# Altium schematic symbol library FishWand_Schlib.SchLib: 69 symbols
Pins are listed as number, name and electrical type; pins without a type are passive.

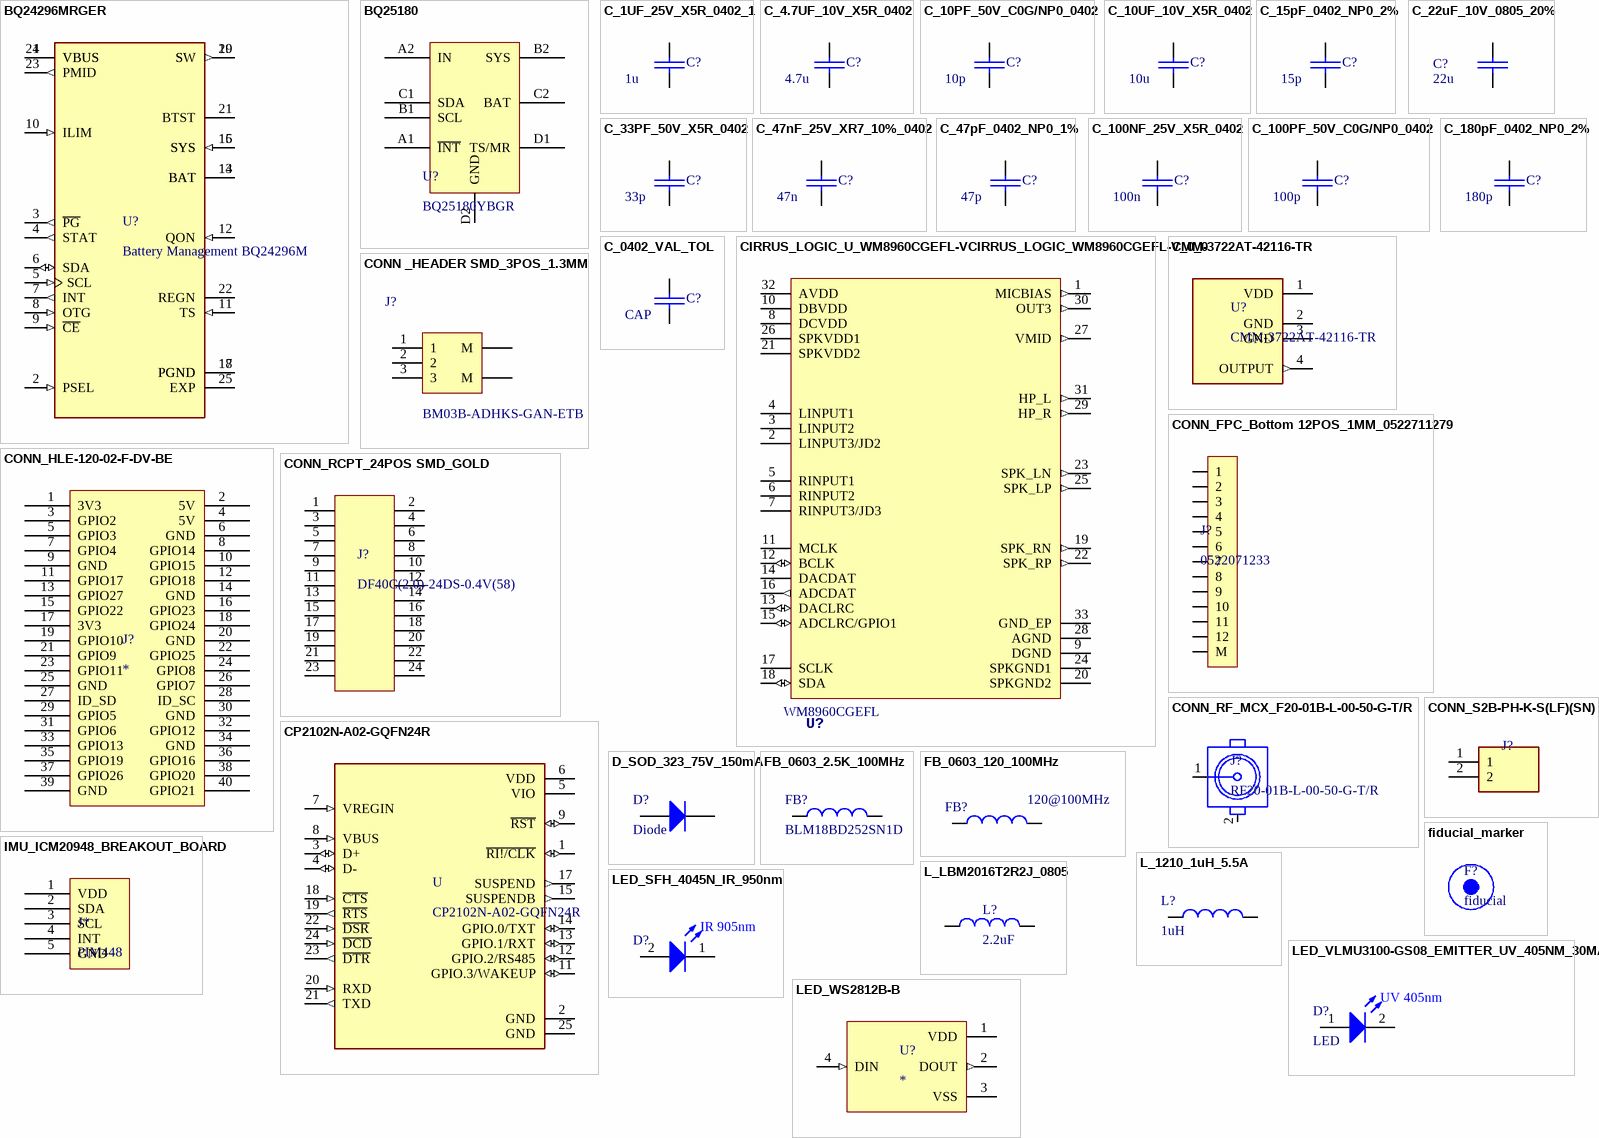
[diagram p0: symbols BQ24296MRGER to LED_WS2812B-B]

## BQ24296MRGER
designator U?, comment Battery Management BQ24296M
Charger IC Lithium Ion/Polymer 24-VQFN (4x4); Manufacturer: TI; Manufacturer PN: BQ24296MRGER; Package / Case: VQFN-24; Price: 4.05; Supplier PN: 595-BQ24296MRGER; Availability: Unavailable; Supplier: Mouser
footprint QFN50P400X400X100-25N
footprint QFN50P400X400X100-25N
pins: 1 VBUS (power), 2 PSEL (in), 3 ~{PG} (out), 4 STAT (out), 5 SCL (in), 6 SDA (io), 7 INT (out), 8 OTG (in), 9 ~{CE} (in), 10 ILIM (in), 11 TS (in), 12 QON (in), 13 BAT (power), 14 BAT (power), 15 SYS (in), 16 SYS (in), 17 PGND (power), 18 PGND (power), 19 SW (out), 20 SW (out), 21 BTST (power), 22 REGN (power), 23 PMID (out), 24 VBUS (power), 25 EXP (power)

## BQ25180
designator U?, comment BQ25180YBGR
Charger IC Lithium Ion/Polymer, Lithium Iron Phosphate 8-DSBGA (1.6x1.1); Manufacturer: Texas Instruments; Supplier: Digi-Key; Supplier PN: 296-BQ25180YBGRTR-ND; Manufacturer PN: BQ25180YBGR; Package / Case: 8-XFBGA, DSBGA; Supplier 1: Digi-Key; Supplier Part Number 1: 296-BQ25180YBGRCT-ND
pins: A1 ~{INT}, A2 IN, B1 SCL, B2 SYS, C1 SDA, C2 BAT, D1 TS/MR, D2 GND

## C_1UF_25V_X5R_0402_1
designator C?, comment 1u
CAP CER 1UF 25V X5R 0402; Manufacturer: Murata Electronics North America; Manufacturer PN: GRT155R61E105KE01D; Supplier PN: 490-12263-2-ND
footprint CAPC100X50X65
pins: 1, 2

## C_4.7UF_10V_X5R_0402
designator C?, comment 4.7u
CAP CER 4.7UF 10V X5R 0402; Manufacturer: Murata Electronics North America; Manufacturer PN: GRM155R61A475MEAAD; Supplier PN: 490-14306-1-ND
footprint CAPC100X50X65
pins: 1, 2

## C_10PF_50V_C0G/NP0_0402
designator C?, comment 10p
CAP CER 10PF 50V C0G/NP0 0402; Manufacturer: Murata Electronics; Manufacturer PN: GRT1555C1H100JA02J; Supplier: Digi-Key; Supplier PN: 490-GRT1555C1H100JA02JTR-ND
footprint CAPC100X50X65
pins: 1, 2

## C_10UF_10V_X5R_0402
designator C?, comment 10u
CAP CER 10UF 10V X5R 0402; Manufacturer: Samsung Electro-Mechanics; Manufacturer PN: CL05A106MP5NUNC; Supplier PN: 1276-1450-1-ND
footprint CAPC100X50X65
pins: 1, 2

## C_15pF_0402_NP0_2%
designator C?, comment 15p
15 pF ±2% 50V Ceramic Capacitor C0G, NP0 0402 (1005 Metric); Manufacturer: YAGEO; Manufacturer PN: CC0402GRNPO9BN150; Value: 15pF; Supplier: Digi-Key; Supplier PN: 311-1649-1-ND; Tolerance: 2%
footprint CAPC100X50X65
pins: 1, 2

## C_22uF_10V_0805_20%
designator C?, comment 22u
CAP CER 22UF 10V X5R 0805; Manufacturer PN: GRM21BR61A226ME51L; Manufacturer: Murata Electronics North America; RoHS: YES; Type: Cer; Supplier PN: 490-10511-1-ND; Value: 22uF
footprint CAPC200X125X140L45N (Capacitor, Chip; 2.00 mm L X 1.25 mm W X 1.40 mm H body)
pins: 1, 2

## C_33PF_50V_X5R_0402
designator C?, comment 33p
CAP CER 33PF 50V C0G/NP0 0402; Manufacturer: Murata Electronics; Manufacturer PN: GRM1555C1H330JA01D; Supplier: Digi-Key; Supplier PN: 490-5936-2-ND
footprint CAPC100X50X65
pins: 1, 2

## C_47nF_25V_XR7_10%_0402
designator C?, comment 47n
CAP CER 0.047UF 25V X7R 0402; Manufacturer: Murata Electronics; Manufacturer PN: GRM155R71E473KA88D; Value: 47nF; Supplier: Digi-Key; Supplier PN: 490-3254-2-ND
footprint CAPC100X50X65
pins: 1, 2

## C_47pF_0402_NP0_1%
designator C?, comment 47p
47 pF ±1% 50V Ceramic Capacitor C0G, NP0 0402 (1005 Metric); Manufacturer: YAGEO; Manufacturer PN: CC0402FRNPO9BN470; Value: 47pF; Supplier: Digi-Key; Supplier PN: 311-1646-1-ND; Tolerance: 1%
footprint CAPC100X50X65
pins: 1, 2

## C_100NF_25V_X5R_0402
designator C?, comment 100n
CAP CER 100nF 25V X5R 0402; Manufacturer: Murata Electronics; Manufacturer PN: GRM155R61E104KA87D; Supplier: Digi-Key; Supplier PN: 490-5920-2-ND
footprint CAPC100X50X65
pins: 1, 2

## C_100PF_50V_C0G/NP0_0402
designator C?, comment 100p
CAP CER 100PF 50V C0G/NP0 0402; Manufacturer: Murata Electronics; Manufacturer PN: GRT1555C1H101JA02J; Supplier: Digi-Key; Supplier PN: 490-GRT1555C1H101JA02JTR-ND
footprint CAPC100X50X65
pins: 1, 2

## C_180pF_0402_NP0_2%
designator C?, comment 180p
180 pF ±2% 50V Ceramic Capacitor C0G, NP0 0402 (1005 Metric); Manufacturer: YAGEO; Manufacturer PN: CC0402GRNPO9BN181; Value: 180pF; Supplier: Digi-Key; Supplier PN: 311-3333-1-ND; Tolerance: 2%
footprint CAPC100X50X65
pins: 1, 2

## C_0402_VAL_TOL
designator C?, comment CAP
footprint CAPC100X50X65
pins: 1, 2

## CIRRUS_LOGIC_U_WM8960CGEFL-VCIRRUS_LOGIC_WM8960CGEFL-V_0_0
designator U?, comment WM8960CGEFL
Manufacturer: Cirrus Logic; Manufacturer PN: WM8960CGEFL/V; Package / Case: QFN32
footprint CIRRUS_LOGIC_WM8960CGEFL-V_0
pins: 1 MICBIAS (out), 2 LINPUT3/JD2, 3 LINPUT2, 4 LINPUT1, 5 RINPUT1, 6 RINPUT2, 7 RINPUT3/JD3, 8 DCVDD (power), 9 DGND (power), 10 DBVDD (power), 11 MCLK, 12 BCLK (io), 13 DACLRC (io), 14 DACDAT, 15 ADCLRC/GPIO1 (io), 16 ADCDAT (out), 17 SCLK, 18 SDA (io), 19 SPK_RN (out), 20 SPKGND2 (power), 21 SPKVDD2 (power), 22 SPK_RP (out), 23 SPK_LN (out), 24 SPKGND1 (power), 25 SPK_LP (out), 26 SPKVDD1 (power), 27 VMID (out), 28 AGND (power), 29 HP_R (out), 30 OUT3 (out), 31 HP_L (out), 32 AVDD (power), 33 GND_EP (power)

## CMM-3722AT-42116-TR
designator U?
MICROPHONE MEMS ANALOG OMNI; Manufacturer: CUI Devices; Package / Case: SMD/SMT; Price: 1.33; Value: *; Manufacturer PN: CMM-3722AT-42116-TR; Availability: Unavailable; Supplier: Mouser; Supplier PN: 490-CMM3722AT42116TR
footprint XDCR_CMM-3722AT-42116-TR
pins: 1 VDD (power), 2 GND (power), 3 GND (power), 4 OUTPUT (out)

## CONN _HEADER SMD_3POS_1.3MM
designator J?, comment BM03B-ADHKS-GAN-ETB
CONN HEADER SMD R/A 3POS 1.3MM; Manufacturer: JST Sales America Inc.; Manufacturer PN: BM03B-ADHKS-GAN-ETB; Supplier: Digi-Key; Supplier PN: 455-2900-1-ND; ComponentLink1Description: Datasheet; ComponentLink1URL: http://www.jst-mfg.com/product/pdf/eng/eADH.pdf
footprint J_JST_BM03B-ADHKS-GAN-ETB (CONN HEADER SMD R/A 3POS 1.3MM)
pins: 0 M, 0 M, 1, 2, 3

## CONN_FPC_Bottom 12POS_1MM_0522711279
designator J?, comment 0522071233
CONN FPC BOTTOM 12POS 1.00MM R/A; Manufacturer: Molex; Manufacturer PN: 0522711279; Supplier: Digi-Key; Supplier PN: WM7960CT-ND; Package / Case: *
footprint CONN_0522711279 (Molex 0522711279)
pins: 1, 2, 3, 4, 5, 6, 7, 8, 9, 10, 11, 12, M

## CONN_HLE-120-02-F-DV-BE
designator J?
CONN_HLE-120-02-F-DV-BE; Manufacturer: Samtec; Manufacturer PN: HLE-120-02-F-DV-BE; Availability: Unavailable; Price: None; Value: *
footprint SAMTEC_HLE-120-02-F-DV-BE
pins: 1 3V3 (power), 2 5V (power), 3 GPIO2, 4 5V (power), 5 GPIO3, 6 GND (power), 7 GPIO4, 8 GPIO14, 9 GND (power), 10 GPIO15, 11 GPIO17, 12 GPIO18, 13 GPIO27, 14 GND (power), 15 GPIO22, 16 GPIO23, 17 3V3 (power), 18 GPIO24, 19 GPIO10, 20 GND (power), 21 GPIO9, 22 GPIO25, 23 GPIO11, 24 GPIO8, 25 GND (power), 26 GPIO7, 27 ID_SD, 28 ID_SC, 29 GPIO5, 30 GND (power), 31 GPIO6, 32 GPIO12, 33 GPIO13, 34 GND (power), 35 GPIO19, 36 GPIO16, 37 GPIO26, 38 GPIO20, 39 GND (power), 40 GPIO21

## CONN_RCPT_24POS SMD_GOLD
designator J?, comment DF40C(2.0)-24DS-0.4V(58)
CONN RCPT 24POS SMD GOLD; Manufacturer: Hirose Electric Co Ltd; Source PN: H124598TR-ND; Manufacturer PN: DF40C(2.0)-24DS-0.4V(58); Source: Digi-Key
pins: 1, 2, 3, 4, 5, 6, 7, 8, 9, 10, 11, 12, 13, 14, 15, 16, 17, 18, 19, 20, 21, 22, 23, 24

## CONN_RF_MCX_F20-01B-L-00-50-G-T/R
designator J?, comment RF20-01B-L-00-50-G-T/R
CONN RF MCX SMT VERT 50OHM; Manufacturer: Adam Tech; Manufacturer PN: RF20-01B-L-00-50-G-T/R; Supplier: Digi-Key; Supplier PN: 2057-RF20-01B-L-00-50-G-T/RCT-ND; Package / Case: MCX SMT VERT 50OHM
footprint MCX_SMT_RF20-01B-L-00-50-G-T/R
pins: 1, 2

## CONN_S2B-PH-K-S(LF)(SN)
designator J?  (value not drawn)
CONN PH Series 2 Position 2.0 mm Through Hole Side Entry Shrouded Header; Manufacturer PN: S2B-PH-K-S(LF)(SN); Manufacturer: JST; Package / Case: None; Availability: Unavailable; Value: *; Price: None
footprint JST_S2B-PH-K-S(LF)(SN)
pins: 1, 2

## CP2102N-A02-GQFN24R
designator U
USB Bridge, USB to UART USB 2.0 UART Interface 24-QFN _4x4_; MF: Silicon Labs; Package: WFQFN-24 Silicon Labs; Price: None; Availability: Unavailable; MP: CP2102N-A02-GQFN24R; SnapEDA_Link: https://www.snapeda.com/parts/CP2102N-A02-GQFN24R/Silicon%20Labs/view-part/3601234/?ref=snap; Value: *
footprint QFN50P400X400X80-25N - duplicate
pins: 1 ~{RI!/CLK} (io), 2 GND (power), 3 D+ (io), 4 D- (io), 5 VIO (power), 6 VDD (power), 7 VREGIN (in), 8 VBUS (in), 9 ~{RST} (io), 11 GPIO.3/WAKEUP (io), 12 GPIO.2/RS485 (io), 13 GPIO.1/RXT (io), 14 GPIO.0/TXT (io), 15 SUSPENDB (out), 17 SUSPEND (out), 18 ~{CTS} (in), 19 ~{RTS} (out), 20 RXD (in), 21 TXD (out), 22 ~{DSR} (in), 23 ~{DTR} (out), 24 ~{DCD} (in), 25 GND (power)

## D_SOD_323_75V_150mA
designator D?, comment Diode
DIODE GEN PURP 75V 150MA SOD323F; Manufacturer: onsemi; Manufacturer PN: 1N4148WS; Supplier: *; Supplier PN: *; Package / Case: SC-90, SOD-323F
footprint D_SOD_323F
pins: 1 K, 2 A

## FB_0603_2.5K_100MHz
designator FB?, comment BLM18BD252SN1D
2.5 kOhms @ 100 MHz 1 Signal Line Ferrite Bead 0603 (1608 Metric) 50mA 1.5Ohm; Manufacturer: Murata Electronics; Value: 2.5k@100MHz; Manufacturer PN: BLM18BD252SN1D; Supplier: *; Supplier PN: *; Package / Case: 0603
footprint BEADC1608X95N
pins: 1, 2

## FB_0603_120_100MHz
designator FB?, comment value 120@100MHz  (hidden comment: BLM18RK121SN1D)
120 Ohms @ 100 MHz 1 Ferrite Bead 0603 (1608 Metric) 200mA 250mOhm; Manufacturer: Murata Electronics; Manufacturer PN: BLM18RK121SN1D; Supplier: Digi-Key; Supplier PN: 490-5226-1-ND; Package / Case: 0603; Current: 200mA; test: *
footprint BEADC1608X95N
pins: 1, 2

## fiducial_marker
designator F?, comment fiducial  (no BOM)
fiducial_marker
footprint fiducial_marker

## IMU_ICM20948_BREAKOUT_BOARD
designator J*, comment PIM448
ICM20948 9DOF MOTION SENSOR BREA; Manufacturer: Pimoroni; Manufacutrer PN: PIM448; Supplier: Digi-Key; Supplier PN: 1778-PIM448-ND
pins: 1 VDD, 2 SDA, 3 SCL, 4 INT, 5 GND

## L_1210_1uH_5.5A
designator L?, comment 1uH
1 µH Shielded Drum Core, Wirewound Inductor 5.5 A 32mOhm Max 1210 (3225 Metric); Manufacturer: Bourns Inc.; Manufacturer PN: SRP3212-1R0M; Tolerance: 20%; Supplier: Digi-Key; Supplier PN: 118-SRP3212-1R0MTR-ND; Value: 1uH; Package / Case: 1210 (3225 Metric)
footprint IND1210 (1210 Inductor)
pins: 1, 2

## L_LBM2016T2R2J_0805
designator L?, comment 2.2uF
2.2 µH Unshielded Drum Core, Wirewound Inductor 340 mA 540mOhm 0806 (2016 Metric); Manufacturer: Taiyo Yuden; Manufacturer PN: LBM2016T2R2J; Value: *; SnapEDA_Link: https://www.snapeda.com/parts/LBM2016T2R2J/Taiyo%20Yuden/view-part/1510952/?ref=snap; Package / Case: 0805; Price: None; Availability: Unavailable; Supplier: Digi-Key; Supplier PN: 587-1807-1-ND
footprint INDC2016X180N
pins: 1, 2

## LED_SFH_4045N_IR_950nm
designator D?, comment value IR 905nm  (hidden comment: LED)
Infrared (IR) Emitter 950nm 1.6V 70mA 90mW/sr @ 70mA 18Â° 2-SMD, No Lead; Manufacturer PN: SFH 4045N; Manufacturer: OSRAM Opto; Purchase-URL: https://pricing.snapeda.com/search/part/SFH 4045N/?ref=eda; Package: SMT-2 OSRAM Opto; SnapEDA_Link: https://www.snapeda.com/parts/SFH%204045N/OSRAM%20Opto%20Semiconductors%20Inc./view-part/250024/?ref=snap; Check_prices: https://www.snapeda.com/parts/SFH%204045N/OSRAM%20Opto%20Semiconductors%20Inc./view-part/250024/?ref=eda; Digi-Key_Part_Number: 475-3047-1-ND
footprint LED_SFH_4045N
footprint LED_SFH_4045N
pins: 1, 2

## LED_VLMU3100-GS08_EMITTER_UV_405NM_30MA
designator D?, comment LED  value UV 405nm
Ultraviolet (UV) Emitter 405nm 3.2V 30mA 2.5mW/sr @ 20mA 120° 2-PLCC; Manufacturer PN: VLMU3100-GS08; Manufacturer: Vishay Semiconductor Opto Division; Package / Case: 2-PLCC; Price: None; Availability: Unavailable
footprint LED_VLMU3100-GS08 (EMITTER UV 405NM 30MA PLCC)
pins: 1 A, 2 K

## LED_WS2812B-B
designator U?
Intelligent control LED integrated light source; Manufacturer PN: WS2812B-V5; Manufacturer: Worldsemi; Package / Case: 5050; Value: *; Price: None; Availability: Unavailable
footprint LED_WS2812B-B
pins: 1 VDD (power), 2 DOUT (out), 3 VSS (power), 4 DIN (in)

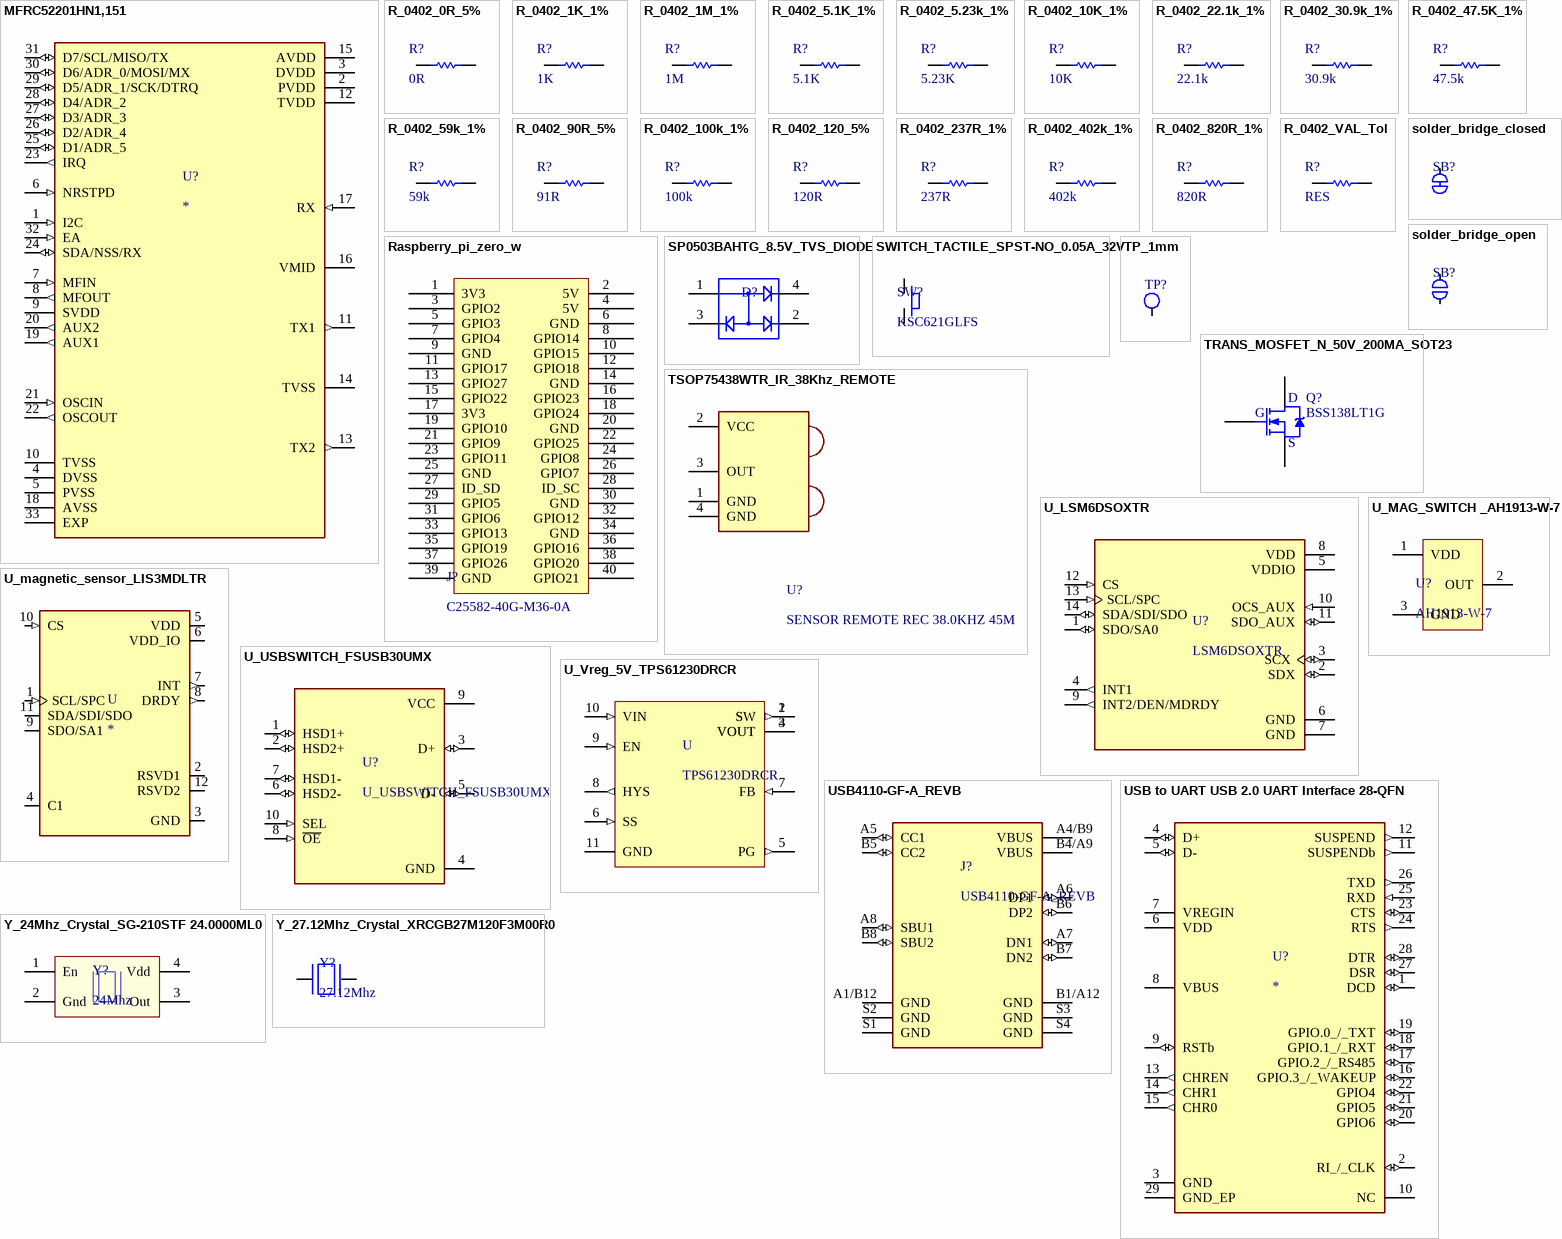
[diagram p1: symbols MFRC52201HN1,151 to Y_27.12Mhz_Crystal_XRCGB27M120F3M00R0]

## MFRC52201HN1,151
designator U?
RFID Reader IC 13.56MHz ISO 14443, MIFARE IÂ²C, SPI, UART 2.5V ~ 3.3V 32-VFQFN Exposed Pad; Manufacturer: NXP USA; Manufacturer PN: MFRC52201HN1,151; Value: *; SnapEDA_Link: https://www.snapeda.com/parts/MFRC52201HN1%2C151/NXP%20USA%20Inc./view-part/480321/?ref=snap; Availability: Unavailable; Price: None; Package / Case: HVQFN-32; Supplier: *
footprint QFN50P500X500X100-33N
pins: 1 I2C (in), 2 PVDD (power), 3 DVDD (power), 4 DVSS (power), 5 PVSS (power), 6 NRSTPD (in), 7 MFIN (in), 8 MFOUT (out), 9 SVDD (power), 10 TVSS (power), 11 TX1 (out), 12 TVDD (power), 13 TX2 (out), 14 TVSS (power), 15 AVDD (power), 16 VMID (power), 17 RX (in), 18 AVSS (power), 19 AUX1 (out), 20 AUX2 (out), 21 OSCIN (in), 22 OSCOUT (out), 23 IRQ (out), 24 SDA/NSS/RX (io), 25 D1/ADR_5 (io), 26 D2/ADR_4 (io), 27 D3/ADR_3 (io), 28 D4/ADR_2 (io), 29 D5/ADR_1/SCK/DTRQ (io), 30 D6/ADR_0/MOSI/MX (io), 31 D7/SCL/MISO/TX (io), 32 EA (in), 33 EXP (power)

## R_0402_0R_5%
designator R?, comment 0R
0 Ohms Jumper 0.063W, 1/16W Chip Resistor 0402 (1005 Metric) Thick Film; Manufacturer: YAGEO; Manufacturer PN: RC0402JR-070RP; Tolerance: 5%; Supplier: *; Supplier PN: *; Value: 0R; Package / Case: 0402
footprint RESC0402
pins: 1, 2

## R_0402_1K_1%
designator R?, comment 1K
1 kOhms ±1% 0.063W, 1/16W Chip Resistor 0402 (1005 Metric) Moisture Resistant Thick Film; Manufacturer: YAGEO; Manufacturer PN: RC0402FR-071KL; Supplier: *; Supplier PN: *; Value: 1K; Tolerance: 1%; Package / Case: 0402
footprint RESC0402
pins: 1, 2

## R_0402_1M_1%
designator R?, comment 1M
1 MOhms ±1% 0.063W, 1/16W Chip Resistor 0402 (1005 Metric) Moisture Resistant Thick Film; Manufacturer: YAGEO; Manufacturer PN: RC0402FR-071ML; Supplier: Digi-Key; Supplier PN: 311-1.00MLRTR-ND; Value: 1M; Tolerance: 1%; Package / Case: 0402
footprint RESC0402
pins: 1, 2

## R_0402_5.1K_1%
designator R?, comment 5.1K
5.1 kOhms ±1% 0.063W, 1/16W Chip Resistor 0402 (1005 Metric) Moisture Resistant Thick Film; Manufacturer: YAGEO; Manufacturer PN: RC0402FR-075K1L; Supplier: Digi-Key; Supplier PN: 311-5.10KLRTR-ND; Value: 5.1K; Tolerance: 1%; Package / Case: 0402
footprint RESC0402
pins: 1, 2

## R_0402_5.23k_1%
designator R?, comment 5.23K
5.23 kOhms ±1% 0.063W, 1/16W Chip Resistor 0402 (1005 Metric) Moisture Resistant Thick Film; Manufacturer: YAGEO; Manufacturer PN: RC0402FR-075K23L; Supplier: Digi-Key; Supplier PN: YAG3195TR-ND; Value: 5.23K; Tolerance: 1%; Package / Case: 0402
footprint RESC0402
pins: 1, 2

## R_0402_10K_1%
designator R?, comment 10K
10 kOhms ±1% 0.063W, 1/16W Chip Resistor 0402 (1005 Metric) Moisture Resistant Thick Film; Manufacturer: YAGEO; Manufacturer PN: RC0402FR-0710KL; Supplier: *; Supplier PN: *; Value: 10K; Tolerance: 1%; Package / Case: 0402
footprint RESC0402
pins: 1, 2

## R_0402_22.1k_1%
designator R?, comment 22.1k
22.1 kOhms ±1% 0.063W, 1/16W Chip Resistor 0402 (1005 Metric) Moisture Resistant Thick Film; Manufacturer: YAGEO; Manufacturer PN: RC0402FR-0722K1L; Value: 22K1; Supplier: *; Supplier PN: *; Tolerance: 1%; Package / Case: 0402
footprint RESC0402
pins: 1, 2

## R_0402_30.9k_1%
designator R?, comment 30.9k
RES 30.9K OHM 1% 1/16W 0402; Manufacturer: YAGEO; Manufacturer PN: RC0402FR-0730K9L; Supplier: Digi-Key; Supplier PN: YAG3110TR-ND; Value: 30.9K; Tolerance: 1%; Package / Case: 0402
footprint RESC0402
pins: 1, 2

## R_0402_47.5K_1%
designator R?, comment 47.5k
47.5 kOhms ±1% 0.063W, 1/16W Chip Resistor 0402 (1005 Metric) Moisture Resistant Thick Film; Manufacturer: YAGEO; Manufacturer PN: RC0402FR-0747K5L; Supplier: *; Supplier PN: *; Value: 47.5k; Tolerance: 1%; Package / Case: 0402
footprint RESC0402
pins: 1, 2

## R_0402_59k_1%
designator R?, comment 59k
59 kOhms ±1% 0.063W, 1/16W Chip Resistor 0402 (1005 Metric) Moisture Resistant Thick Film; Manufacturer: YAGEO; Manufacturer PN: RC0402FR-0759KL; Supplier: Digi-Key; Supplier PN: 311-59KLRTR-ND; Value: 59k; Package / Case: 0402
footprint RESC0402
pins: 1, 2

## R_0402_90R_5%
designator R?, comment 91R
91 Ohms ±5% 0.063W, 1/16W Chip Resistor 0402 (1005 Metric) Moisture Resistant Thick Film; Manufacturer: YAGEO; Manufacturer PN: RC0402JR-0791RL; Supplier: Digi-Key; Supplier PN: 311-91JRCT-ND; Value: 91R; Tolerance: 5%; Package / Case: 0402
footprint RESC0402
pins: 1, 2

## R_0402_100k_1%
designator R?, comment 100k
100 kOhms ±1% 0.063W, 1/16W Chip Resistor 0402 (1005 Metric) Moisture Resistant Thick Film; Manufacturer: YAGEO; Manufacturer PN: RC0402FR-07100KL; Supplier: Digi-Key; Supplier PN: 311-100KLRTR-ND; Value: 100k; Tolerance: 1%; Package / Case: 0402
footprint RESC0402
pins: 1, 2

## R_0402_120_5%
designator R?, comment 120R
120 Ohms ±5% 0.063W, 1/16W Chip Resistor 0402 (1005 Metric) Moisture Resistant Thick Film; Manufacturer: YAGEO; Manufacturer PN: RC0402JR-07120RL; Supplier: Digi-Key; Supplier PN: 311-120JRCT-ND; Value: 120R; Tolerance: 5%; Package / Case: 0402
footprint RESC0402
pins: 1, 2

## R_0402_237R_1%
designator R?, comment 237R
237 Ohms ±1% 0.063W, 1/16W Chip Resistor 0402 (1005 Metric) Moisture Resistant Thick Film; Manufacturer: YAGEO; Manufacturer PN: RC0402FR-07237RL; Supplier: Digi-Key; Supplier PN: YAG3065TR-ND; Value: 237R; Tolerance: 1%; Package / Case: 0402
footprint RESC0402
pins: 1, 2

## R_0402_402k_1%
designator R?, comment 402k
402 kOhms ±1% 0.063W, 1/16W Chip Resistor 0402 (1005 Metric) Moisture Resistant Thick Film; Manufacturer: YAGEO; Manufacturer PN: RC0402FR-07402KL; Supplier: Digi-Key; Supplier PN: YAG3151TR-ND; Value: 402k; Tolerance: 1%; Package / Case: 0402
footprint RESC0402
pins: 1, 2

## R_0402_820R_1%
designator R?, comment 820R
820 Ohms ±1% 0.063W, 1/16W Chip Resistor 0402 (1005 Metric) Moisture Resistant Thick Film; Manufacturer: YAGEO; Manufacturer PN: RC0402FR-07820RL; Supplier: Digi-Key; Supplier PN: 311-820LRCT-ND; Value: 820R; Tolerance: 1%; Package / Case: 0402
footprint RESC0402
pins: 1, 2

## R_0402_VAL_Tol
designator R?, comment RES
Manufacturer: YAGEO; Supplier: Digi-Key; Package / Case: 0402
footprint RESC0402
pins: 1, 2

## Raspberry_pi_zero_w
designator J?, comment C25582-40G-M36-0A
SMT GPIO Header for Raspberry Pi HAT - 2x20 Short Female Header; Manufacturer: Kaweeu Technology; Manufacturer PN: C25582-40G-M36-0A; Supplier: Adafruit; Supplier PN: 2187; Package / Case: Raspberry Pi HAT - 2x20
footprint C25582-40G-M36-0A (Header, 40 Position, 2.54 mm Pitch, Shrouded, Female, Receptacle, Vertical, SMD)
pins: 1 3V3 (power), 2 5V (power), 3 GPIO2, 4 5V (power), 5 GPIO3, 6 GND (power), 7 GPIO4, 8 GPIO14, 9 GND (power), 10 GPIO15, 11 GPIO17, 12 GPIO18, 13 GPIO27, 14 GND (power), 15 GPIO22, 16 GPIO23, 17 3V3 (power), 18 GPIO24, 19 GPIO10, 20 GND (power), 21 GPIO9, 22 GPIO25, 23 GPIO11, 24 GPIO8, 25 GND (power), 26 GPIO7, 27 ID_SD, 28 ID_SC, 29 GPIO5, 30 GND (power), 31 GPIO6, 32 GPIO12, 33 GPIO13, 34 GND (power), 35 GPIO19, 36 GPIO16, 37 GPIO26, 38 GPIO20, 39 GND (power), 40 GPIO21

## solder_bridge_closed
designator SB?, comment CC  (value not drawn)  (no BOM)
Solder Bridge Closed Circuit
pins: 1

## solder_bridge_open
designator SB?, comment OC  (value not drawn)  (no BOM)
Solder Bridge Open Circuit
pins: 1, 2

## SP0503BAHTG_8.5V_TVS_DIODE
designator D?  (value not drawn)
8.5V Clamp Ipp Tvs Diode Surface Mount SOT-143-4; Manufacturer PN: SP0503BAHTG; Manufacturer: Littelfuse Inc.; Package / Case: SOT-143 Littelfuse; SnapEDA_Link: https://www.snapeda.com/parts/SP0503BAHTG/Littelfuse%20Inc./view-part/214427/?ref=snap; Digi-Key_Purchase_URL: https://www.digikey.com/product-detail/en/littelfuse-inc/SP0503BAHTG/F2715CT-ND/1154322?utm_source=snapeda&utm_medium=aggregator&utm_campaign=symbol; Value: *; Digi-Key_Part_Number: F2715CT-ND
footprint SOT143
pins: 1, 2, 3, 4

## SWITCH_TACTILE_SPST-NO_0.05A_32V
designator SW?, comment KSC621GLFS  (net tie)
SWITCH_TACTILE_SPST-NO_0.05A_32V; Manufacturer: C&K; Manufacturer PN: KSC621GLFS; Supplier: Digi-Key; Supplier PN: 401-1786-2-ND
footprint SW_KSC621GLFS (SWITCH TACTILE SPST-NO 0.05A 32V)
pins: 1, 2, 3, 4

## TP_1mm
designator TP?, comment Test Point  (value not drawn)  (no BOM)
footprint tp_1mm
pins: 1

## TRANS_MOSFET_N_50V_200MA_SOT23
designator Q?, comment BSS138LT1G
MOSFET N-CH 50V 200MA SOT-23; Manufacturer: ON Semiconductor; Manufacturer PN: BSS138LT1G; Type: MOSFET N-CH; Supplier PN: BSS138LT1GOSCT-ND
footprint SOT23-3P95_240X111L42X43N (Small Outline Transistor (SOT23), 0.95 mm pitch; 3 pin, 2.90 mm L X 1.30 mm W X 1.11 mm H body)
pins: 1 G, 2 S, 3 D

## TSOP75438WTR_IR_38Khz_REMOTE
designator U?, comment SENSOR REMOTE REC 38.0KHZ 45M
Remote Receiver Sensor 38.0kHz 45m Surface Mount; Manufacturer: Vishay Semiconductor Opto Division; Manufacturer PN: TSOP75438WTR; Price: 2.08; Supplier PN: 751-TSOP75438WCT-ND; Supplier: Digi-Key
footprint TSOP75438WTR (TSOP75438WTR_IR_RX)
pins: 1 GND, 2 VCC, 3 OUT, 4 GND

## U_LSM6DSOXTR
designator U?, comment LSM6DSOXTR
Accelerometer, Gyroscope, Temperature, 6 Axis Sensor IÂ²C, SPI Output; Manufacturer: STMicroelectronics; Value: *; Availability: Unavailable; SnapEDA_Link: https://www.snapeda.com/parts/LSM6DSMTR/STMicroelectronics/view-part/581716/?ref=snap; Package / Case: 14-VFLGA Module; Manufacturer PN: LSM6DSOXTR; Price: None; Supplier: Digi-Key; Supplier PN: 497-18367-2-ND
footprint PQFN50P300X250X86-14N
pins: 1 SDO/SA0 (io), 2 SDX (io), 3 SCX (io), 4 INT1 (out), 5 VDDIO (power), 6 GND (power), 7 GND (power), 8 VDD (power), 9 INT2/DEN/MDRDY (out), 10 OCS_AUX (in), 11 SDO_AUX (io), 12 CS (in), 13 SCL/SPC (in), 14 SDA/SDI/SDO (io)

## U_MAG_SWITCH _AH1913-W-7
designator U?, comment AH1913-W-7
MAG SWITCH OMNIPOL SC59-3 T&R; Manufacturer: Diodes Incorporated; Manufacturer PN: AH1913-W-7; Supplier: Digi-Key; Supplier PN: SC-59-3; Package / Case: 0402
footprint SC59-3
pins: 1 VDD, 2 OUT, 3 GND

## U_magnetic_sensor_LIS3MDLTR
designator U
Magnetoresistive Sensor X, Y, Z Axis 12-LGA _2x2_; Manufacturer: STMicroelectronics; Manufacturer PN: LIS3MDLTR; Availability: Unavailable; Price: None; SnapEDA_Link: https://www.snapeda.com/parts/LIS3MDLTR/STMicroelectronics/view-part/382740/?ref=snap; Package / Case: VFLGA-12 STMicroelectronics; Value: *; Supplier: Digi-Key; Supplier PN: 497-13892-1-ND
footprint XDCR_LIS3MDLTR
pins: 1 SCL/SPC (in), 2 RSVD1, 3 GND (power), 4 C1, 5 VDD (power), 6 VDD_IO (power), 7 INT (out), 8 DRDY (out), 9 SDO/SA1 (io), 10 CS (in), 11 SDA/SDI/SDO (io), 12 RSVD2

## U_USBSWITCH_FSUSB30UMX
designator U?
USB Switch IC 1 Channel 10-UMLP (1.8x1.4); Manufacturer: ON Semiconductor; Value: *; SnapEDA_Link: https://www.snapeda.com/parts/FSUSB30UMX/ON%20Semiconductor/view-part/9990/?ref=snap; Supplier PN: FSUSB30UMXCT-ND; Purchase-URL: https://pricing.snapeda.com/search/part/FSUSB30UMX/?ref=eda; Package: UQFN-10 ON Semiconductor; Manufacturer PN: FSUSB30UMX; Supplier: Digi-Key
footprint IC_FSUSB30UMX
pins: 1 HSD1+ (io), 2 HSD2+ (io), 3 D+ (io), 4 GND (power), 5 D- (io), 6 HSD2- (io), 7 HSD1- (io), 8 ~{OE} (in), 9 VCC (power), 10 SEL (in)

## U_Vreg_5V_TPS61230DRCR
designator U, comment TPS61230DRCR
High Efficiency Synchronous Boost Converter With 5-A Switch 10-VSON -40 to 85; Manufacturer: Texas Instruments; Value: *; Availability: Unavailable; Package / Case: VSON-10 Texas Instruments; Texas_Instruments-Purchase-URL: https://snapeda.com/shop?store=Texas+Instruments&id=51762; Price: None; SnapEDA_Link: https://www.snapeda.com/parts/TPS61230DRCR/Texas%20Instruments/view-part/51762/?ref=snap; Manufacturer PN: TPS61230DRCR; BuyPart: https://www.snapeda.com/parts/TPS61230DRCR/Texas%20Instruments/view-part/51762/?ref=eda; Supplier: Digi-Key; Supplier PN: 296-37761-2-ND
footprint VREG_V62/16624-01YE
pins: 1 SW (out), 2 SW (out), 3 VOUT (power), 4 VOUT (power), 5 PG (out), 6 SS (in), 7 FB (in), 8 HYS (out), 9 EN (in), 10 VIN (in), 11 GND (power)

## USB4110-GF-A_REVB
designator J?
USB-C (USB TYPE-C) USB 2.0 Receptacle Connector 24 (16+8 Dummy) Position Surface Mount, Right Angle; Through Hole; Manufacturer: GCT; Value: *; Price: 1.41; Package / Case: USB TYPE-C; SnapEDA_Link: https://www.snapeda.com/parts/USB4110-GF-A/Global%20Connector%20Technology/view-part/4001167/?ref=snap; Availability: Warning; Manufacturer PN: USB4110-GF-A; Check_prices: https://www.snapeda.com/parts/USB4110-GF-A/Global%20Connector%20Technology/view-part/4001167/?ref=eda; Supplier: Digi-Key; Supplier PN: 2073-USB4110-GF-A-2-ND
footprint GCT_USB4110-GF-A_REVB
pins: A1/B12 GND (power), A4/B9 VBUS (power), A5 CC1 (io), A6 DP1 (io), A7 DN1 (io), A8 SBU1 (io), B1/A12 GND (power), B4/A9 VBUS (power), B5 CC2 (io), B6 DP2 (io), B7 DN2 (io), B8 SBU2 (io), S1 GND (power), S2 GND (power), S3 GND (power), S4 GND (power)

## USB to UART USB 2.0 UART Interface 28-QFN
designator U?
USB Bridge, USB to UART USB 2.0 UART Interface 28-QFN (5x5); Manufacturer: Silicon Labs; Manufacturer PN: CP2102N-A02-GQFN28; Value: *; Price: None; Mouser-Purchase-URL: https://www.mouser.com/ProductDetail/Silicon-Labs/CP2102N-A02-GQFN28?qs=u16ybLDytRaSBkSkyjYFiA%3D%3D; Package / Case: QFN-28; Supplier: Mouser; Supplier PN: 634-CP2102NA02GQFN28
footprint QFN50P500X500X80-29N
pins: 1 DCD (io), 2 RI_/_CLK (io), 3 GND (power), 4 D+ (io), 5 D- (io), 6 VDD (power), 7 VREGIN (power), 8 VBUS (power), 9 RSTb (io), 10 NC, 11 SUSPENDb (out), 12 SUSPEND (out), 13 CHREN (out), 14 CHR1 (out), 15 CHR0 (out), 16 GPIO.3_/_WAKEUP (io), 17 GPIO.2_/_RS485 (io), 18 GPIO.1_/_RXT (io), 19 GPIO.0_/_TXT (io), 20 GPIO6 (io), 21 GPIO5 (io), 22 GPIO4 (io), 23 CTS (io), 24 RTS (out), 25 RXD (in), 26 TXD (out), 27 DSR (io), 28 DTR (io), 29 GND_EP (power)

## Y_24Mhz_Crystal_SG-210STF 24.0000ML0
designator Y?, comment 24Mhz
24 MHz XO (Standard) CMOS Oscillator 1.6V ~ 3.6V Standby (Power Down) 4-SMD, No Lead; Manufacturer PN: SG-210STF 24.0000ML0; Manufacturer: EPSON; Value: *; Price: None; Package / Case: 4-SMD, No Lead; Supplier: Digi-Key; Supplier PN: SER4078TR-ND
footprint OSC_SG-210STF 24.0000ML0
pins: 1 En, 2 Gnd, 3 Out, 4 Vdd

## Y_27.12Mhz_Crystal_XRCGB27M120F3M00R0
designator Y?, comment 27.12Mhz
27.12MHz Â±30ppm Crystal 6pF 150 Ohms 4-SMD, No Lead; Manufacturer PN: XRCGB27M120F3M00R0; Manufacturer: Murata Electronics; Value: *; SnapEDA_Link: https://www.snapeda.com/parts/XRCGB27M120F3M00R0/Murata%20Electronics%20North%20America/view-part/108821/?ref=snap; Purchase-URL: https://pricing.snapeda.com/search/part/XRCGB27M120F3M00R0/?ref=eda; Check_prices: https://www.snapeda.com/parts/XRCGB27M120F3M00R0/Murata%20Electronics%20North%20America/view-part/108821/?ref=eda; Availability: Good; Price: None; Package / Case: SMD-4 Murata; Supplier: Mouser; Supplier PN: 81-XRCGB27M120F3M0R0
footprint OSC_XRCGB27M120F3M00R0
pins: 1, 3